# EAGLE library part D2840-42 (library D2840-42 v2)
Check availability <https://pricing.snapeda.com/parts/D2840-42/Harwin/view-part?ref=eda>
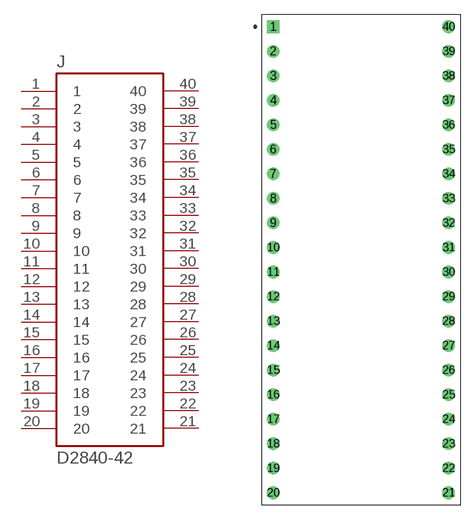
[diagram p0: symbol with the pads of HARWIN_D2840-42; footprint HARWIN_D2840-42]

Designator prefix J

## D2840-42 (AVAILABILITY: In Stock; CHECK_PRICES: https://www.snapeda.com/parts/D2840-42/Harwin/view-part/?ref=eda; DESCRIPTION: 2.54mm (0.1) Pitch Dual Row Throughboard IC Socket Assembly, 15.24 (.6) between rows, gold clip + tin shell, 40 contacts; MF: Harwin; MP: D2840-42; PACKAGE: None; PRICE: None; SNAPEDA_LINK: https://www.snapeda.com/parts/D2840-42/Harwin/view-part/?ref=snap)  [HARWIN_D2840-42]
1  1  pas
2  2  pas
3  3  pas
4  4  pas
5  5  pas
6  6  pas
7  7  pas
8  8  pas
9  9  pas
10  10  pas
11  11  pas
12  12  pas
13  13  pas
14  14  pas
15  15  pas
16  16  pas
17  17  pas
18  18  pas
19  19  pas
20  20  pas
21  21  pas
22  22  pas
23  23  pas
24  24  pas
25  25  pas
26  26  pas
27  27  pas
28  28  pas
29  29  pas
30  30  pas
31  31  pas
32  32  pas
33  33  pas
34  34  pas
35  35  pas
36  36  pas
37  37  pas
38  38  pas
39  39  pas
40  40  pas

## Footprint HARWIN_D2840-42 (pad centres in mm)
drill 0.8 square: 1 -7.62,24.13
drill 0.8: 2 -7.62,21.59; 3 -7.62,19.05; 4 -7.62,16.51; 5 -7.62,13.97; 6 -7.62,11.43; 7 -7.62,8.89; 8 -7.62,6.35; 9 -7.62,3.81; 10 -7.62,1.27; 11 -7.62,-1.27; 12 -7.62,-3.81; 13 -7.62,-6.35; 14 -7.62,-8.89; 15 -7.62,-11.43; 16 -7.62,-13.97; 17 -7.62,-16.51; 18 -7.62,-19.05; 19 -7.62,-21.59; 20 -7.62,-24.13; 21 10.541,-24.13; 22 10.541,-21.59; 23 10.541,-19.05; 24 10.541,-16.51; 25 10.541,-13.97; 26 10.541,-11.43; 27 10.541,-8.89; 28 10.541,-6.35; 29 10.541,-3.81; 30 10.541,-1.27; 31 10.541,1.27; 32 10.541,3.81; 33 10.541,6.35; 34 10.541,8.89; 35 10.541,11.43; 36 10.541,13.97; 37 10.541,16.51; 38 10.541,19.05; 39 10.541,21.59; 40 10.541,24.13